# EAGLE library part DNC (library _mtvl.cells)
Digital Noise Cell LFSR Noise Source Hybrid Submodule
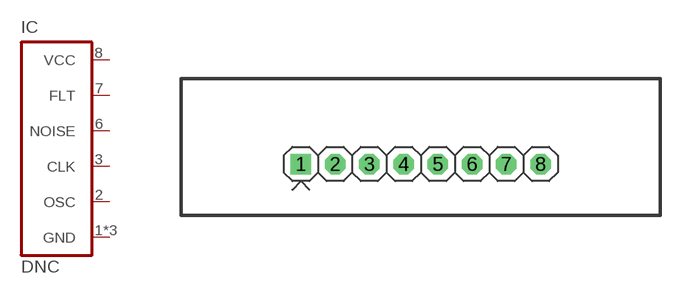
[diagram p4: symbol with the pads of SIP-8A; footprint SIP-8A]

Designator prefix IC

## DNC  [SIP-8A]
1  GND  sup
2  OSC  out
3  CLK  in
4  GND  sup
5  GND  sup
6  NOISE  out
7  FLT  out
8  VCC  sup

## Footprint SIP-8A (pad centres in mm)
SIP Hybrid Submodule "CELL" 8-pin VAR A
drill 1 square: 1 -8.89,0
drill 1 octagon: 2 -6.35,0; 3 -3.81,0; 4 -1.27,0; 5 1.27,0; 6 3.81,0; 7 6.35,0; 8 8.89,0